# Altium schematic symbol library LoRa_E32.SchLib: 1 symbol
Pins are listed as number, name and electrical type; pins without a type are passive.

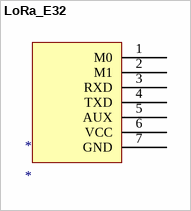
[diagram p0: symbol LoRa_E32]

## LoRa_E32
designator *
footprint LoRa_E32
pins: 1 M0, 2 M1, 3 RXD, 4 TXD, 5 AUX, 6 VCC, 7 GND